# Altium schematic symbol library ic-analog-interface.SchLib: 2 symbols
Pins are listed as number, name and electrical type; pins without a type are passive.

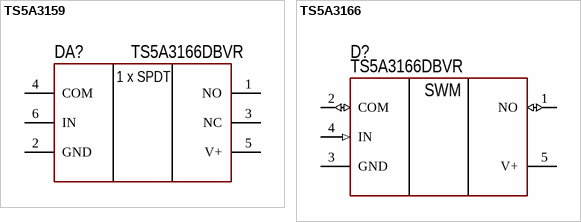
[diagram p0: symbols TS5A3159 to TS5A3166]

## TS5A3159
designator DA?  PartNumber: TS5A3166DBVR
Analog Switch SPDT; Manufacturer: Texas Instruments; ValueManufacturerPartNumber: Analog Switch ICs, 7ns/11.5ns, 100mA, 900mOhm, 19pF/18pF, 1.65...5.5V, -40...+85°C, SOT-23-5; Supply: 1.65...5.5V; SwitchTime: 7ns/11.5ns; Current: 100mA; OnStateResistance: 900mOhm; ChannelCapacitance: 19pF/18pF; HelpURL: https://www.digikey.com/en/products/detail/texas-instruments/TS5A3166DBVR/716904; Package: SOT-23-5; ComponentType: Analog Switch ICs; Temperature: -40...+85°C
footprint SOT23-6 (pitch 0.95 mm)
pins: 1 NO, 2 GND, 3 NC, 4 COM, 5 V+, 6 IN
text: 1 х SPDT

## TS5A3166
designator D?  PartNumber: TS5A3166DBVR
Analog Switch; Manufacturer: Texas Instruments; ValueManufacturerPartNumber: Analog Switch ICs, 7ns/11.5ns, 100mA, 900mOhm, 19pF/18pF, 1.65...5.5V, -40...+85°C, SOT-23-5; Supply: 1.65...5.5V; SwitchTime: 7ns/11.5ns; Current: 100mA; OnStateResistance: 900mOhm; ChannelCapacitance: 19pF/18pF; HelpURL: https://www.digikey.com/en/products/detail/texas-instruments/TS5A3166DBVR/716904; Package: SOT-23-5; ComponentType: Analog Switch ICs; Temperature: -40...+85°C
footprint SOT23-5 (pitch 0.95 mm)
pins: 1 NO (io), 2 COM (io), 3 GND, 4 IN (in), 5 V+
text: SWM